# EAGLE library part MAX7480 (library HyTechDevices - Copy)
8th-order lowpass butterworth filter
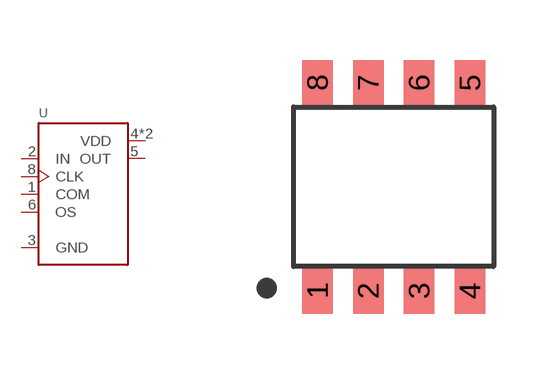
[diagram p13: symbol with the pads of SOIC-08; footprint SOIC-08]

Designator prefix -

## MAX7480  [SOIC-08]
1  COM
2  IN  in
3  GND  pwr
4  VDD  pwr
5  OUT  out
6  OS
7  VDD  pwr
8  CLK  in

## Footprint SOIC-08 (pad centres in mm)
SOIC-8 Datasheet <https://www.analog.com/media/en/package-pcb-resources/package/pkg_pdf/ltc-legacy-soic/05081610_G_SO8.pdf>
smd 0.762 x 1.143: 1 -1.905,-2.603; 2 -0.635,-2.603; 3 0.635,-2.603; 4 1.905,-2.603; 5 1.905,2.603; 6 0.635,2.603; 7 -0.635,2.603; 8 -1.905,2.603